# Altium schematic symbol library TB003-500-P02BE.SchLib: 1 symbol
Pins are listed as number, name and electrical type; pins without a type are passive.

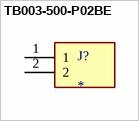
[diagram p0: symbol TB003-500-P02BE]

## TB003-500-P02BE
designator J?
MP: TB003-500-P02BE; MF: {'manufacturer': u'CUI'}; Availability: Unavailable; Price: None; Package: None; Value: *
footprint CUI_TB003-500-P02BE
pins: 1, 2